# EAGLE library part W5200 (library _wiznet_2013-08-28)
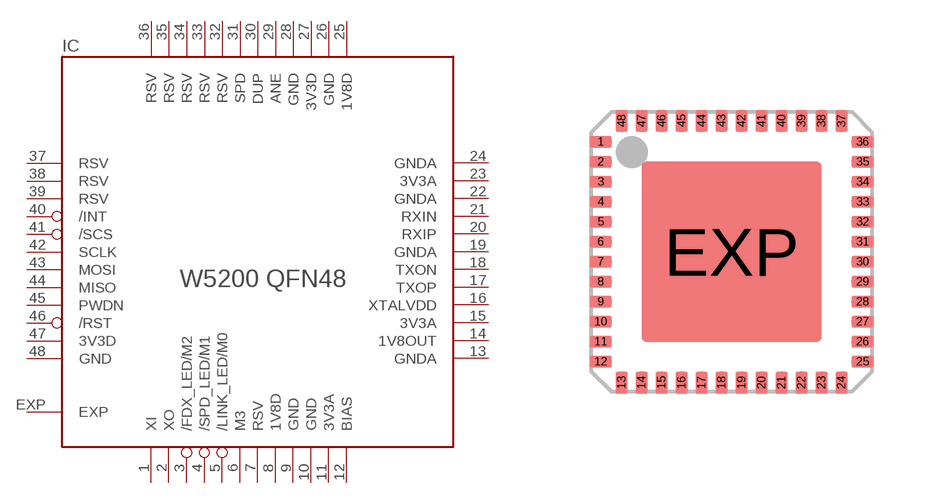
[diagram p1: symbol with the pads of QFN48; footprint QFN48]

Designator prefix IC

## W5200  [QFN48]
1  XI  in
2  XO  out
3  /FDX_LED/M2
4  /SPD_LED/M1
5  /LINK_LED/M0
6  M3  in
7  RSV
8  1V8D  pwr
9  GND  pwr
10  GND  pwr
11  3V3A  pwr
12  BIAS  out
13  GNDA  pwr
14  1V8OUT  out
15  3V3A  pwr
16  XTALVDD  in
17  TXOP
18  TXON
19  GNDA  pwr
20  RXIP
21  RXIN
22  GNDA  pwr
23  3V3A  pwr
24  GNDA  pwr
25  1V8D  pwr
26  GND  pwr
27  3V3D  pwr
28  GND  pwr
29  ANE  in
30  DUP  in
31  SPD  in
32  RSV
33  RSV
34  RSV
35  RSV
36  RSV
37  RSV
38  RSV
39  RSV
40  /INT  out
41  /SCS  in
42  SCLK  in
43  MOSI  in
44  MISO  out
45  PWDN  in
46  /RST  in
47  3V3D  pwr
48  GND  pwr
EXP  EXP  pwr

## Footprint QFN48 (pad centres in mm)
smd 0.55 x 0.3: 1 -3.275,2.75; 2 -3.275,2.25; 3 -3.275,1.75; 4 -3.275,1.25; 5 -3.275,0.75; 6 -3.275,0.25; 7 -3.275,-0.25; 8 -3.275,-0.75; 9 -3.275,-1.25; 10 -3.275,-1.75; 11 -3.275,-2.25; 12 -3.275,-2.75; 25 3.275,-2.75; 26 3.275,-2.25; 27 3.275,-1.75; 28 3.275,-1.25; 29 3.275,-0.75; 30 3.275,-0.25; 31 3.275,0.25; 32 3.275,0.75; 33 3.275,1.25; 34 3.275,1.75; 35 3.275,2.25; 36 3.275,2.75
smd 0.3 x 0.55: 13 -2.75,-3.275; 14 -2.25,-3.275; 15 -1.75,-3.275; 16 -1.25,-3.275; 17 -0.75,-3.275; 18 -0.25,-3.275; 19 0.25,-3.275; 20 0.75,-3.275; 21 1.25,-3.275; 22 1.75,-3.275; 23 2.25,-3.275; 24 2.75,-3.275; 37 2.75,3.275; 38 2.25,3.275; 39 1.75,3.275; 40 1.25,3.275; 41 0.75,3.275; 42 0.25,3.275; 43 -0.25,3.275; 44 -0.75,3.275; 45 -1.25,3.275; 46 -1.75,3.275; 47 -2.25,3.275; 48 -2.75,3.275
smd 4.5 x 4.5: EXP 0,0